# Altium footprint library SOT143_L.PcbLib: 8 footprints
Each footprint in its own frame and in the unit in brackets; x right, y up, seen from the top. Pads: shape width x height; smd on the part's side, far side on the other; paste and mask are expansions set on the pad; w line width, h text height; cw(c..) or ccw(c..) is an arc to the next point about the centre after c.
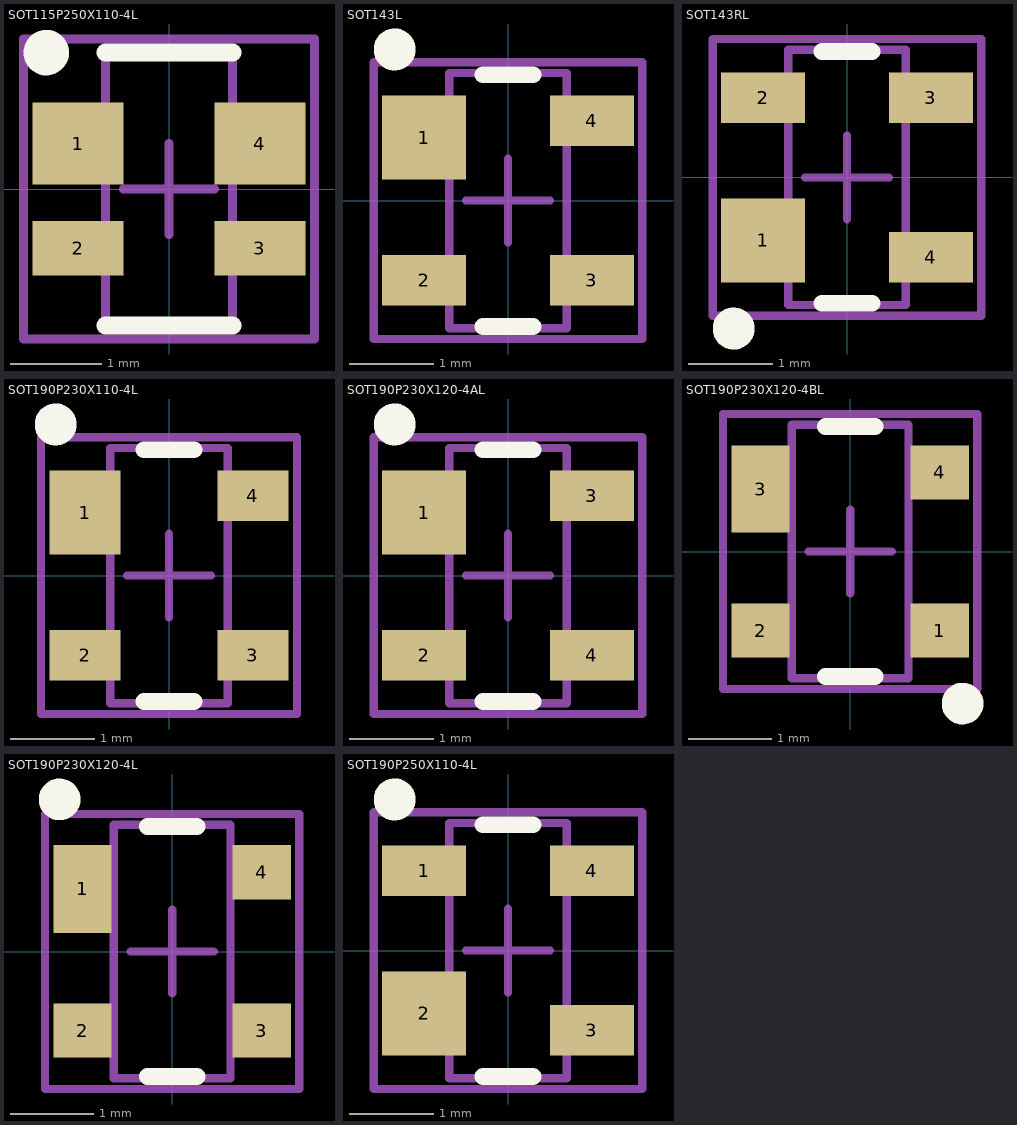
[diagram p0: the footprints below, top view; thin cyan lines are the x and y axes]

## SOT115P250X110-4L [mm] "SOT143, 4-Leads, Body 2.9x1.3mm, Pitch 1.15mm, Lead Span 2.5mm, IPC High Density"
height 1.1
pads (4):
  rect 1x0.9 smd: 1(-1,0.5) 4(1,0.5)
  rect 1x0.6 smd: 2(-1,-0.65) 3(1,-0.65)
Top Overlay:
  circle w0.25: c-1.35,1.5 r0.125
  lines w0.2: -0.7,-1.5 0.7,-1.5 ; -0.7,1.5 0.7,1.5
Mechanical 13:
  lines w0.1: -0.7,-1.52 -0.7,1.52 0.7,1.52 0.7,-1.52 -0.7,-1.52
Mechanical 15:
  lines w0.1: -0.5,0 0.5,0 ; 0,-0.5 0,0.5 ; -1.6,-1.65 -1.6,1.65 1.6,1.65 1.6,-1.65 -1.6,-1.65
3D body: height 1.1, standoff 0, extent -0.7,-1.52 0.7,1.52

## SOT143L [mm] "SOT143, 4-Leads, Body 2.9x1.3mm, Pitch 1.9mm, Lead Span 2.5mm, IPC High Density"
height 1.1
pads (4):
  rect 1x1 smd: 1(-1,0.75)
  rect 1x0.6 smd: 2(-1,-0.95) 3(1,-0.95) 4(1,0.95)
Top Overlay:
  circle w0.25: c-1.35,1.8 r0.125
  lines w0.2: -0.3,-1.5 0.3,-1.5 ; -0.3,1.5 0.3,1.5
Mechanical 13:
  lines w0.1: -0.7,-1.52 -0.7,1.52 0.7,1.52 0.7,-1.52 -0.7,-1.52
Mechanical 15:
  lines w0.1: -0.5,0 0.5,0 ; 0,-0.5 0,0.5 ; -1.6,-1.65 -1.6,1.65 1.6,1.65 1.6,-1.65 -1.6,-1.65
3D body: height 1.1, standoff 0, extent -0.7,-1.52 0.7,1.52

## SOT143RL [mm] "SOT143, 4-Leads, Body 2.9x1.3mm, Pitch 1.9mm, Lead Span 2.3mm - Reverse Pinning, IPC High Density"
height 1.1
pads (4):
  rect 1x1 smd: 1(-1,-0.75)
  rect 1x0.6 smd: 2(-1,0.95) 3(1,0.95) 4(1,-0.95)
Top Overlay:
  circle w0.25: c-1.35,-1.8 r0.125
  lines w0.2: -0.3,-1.5 0.3,-1.5 ; -0.3,1.5 0.3,1.5
Mechanical 13:
  lines w0.1: -0.7,-1.52 0.7,-1.52 0.7,1.52 -0.7,1.52 -0.7,-1.52
Mechanical 15:
  lines w0.1: -0.5,0 0.5,0 ; 0,-0.5 0,0.5 ; -1.6,-1.65 1.6,-1.65 1.6,1.65 -1.6,1.65 -1.6,-1.65
3D body: height 1.1, standoff 0, extent -0.7,-1.52 0.7,1.52

## SOT190P230X110-4L [mm] "SOT143, 4-Leads, Body 2.9x1.3mm, Pitch 1.9mm, Lead Span 2.3mm, IPC High Density"
height 1.1
pads (4):
  rect 0.85x1 smd: 1(-1,0.75)
  rect 0.85x0.6 smd: 2(-1,-0.95) 3(1,-0.95) 4(1,0.95)
Top Overlay:
  circle w0.25: c-1.35,1.8 r0.125
  lines w0.2: -0.3,-1.5 0.3,-1.5 ; -0.3,1.5 0.3,1.5
Mechanical 13:
  lines w0.1: -0.7,-1.52 -0.7,1.52 0.7,1.52 0.7,-1.52 -0.7,-1.52
Mechanical 15:
  lines w0.1: -0.5,0 0.5,0 ; 0,-0.5 0,0.5 ; -1.525,-1.65 -1.525,1.65 1.525,1.65 1.525,-1.65 -1.525,-1.65
3D body: height 1.1, standoff 0, extent -0.7,-1.52 0.7,1.52

## SOT190P230X120-4AL [mm] "SOT143, 4-Leads, Body 2.9x1.3mm, Pitch 1.9mm, Lead Span 2.3mm, IPC High Density"
height 1.2
pads (4):
  rect 1x1 smd: 1(-1,0.75)
  rect 1x0.6 smd: 2(-1,-0.95) 3(1,0.95) 4(1,-0.95)
Top Overlay:
  circle w0.25: c-1.35,1.8 r0.125
  lines w0.2: -0.3,-1.5 0.3,-1.5 ; -0.3,1.5 0.3,1.5
Mechanical 13:
  lines w0.1: -0.7,-1.52 -0.7,1.52 0.7,1.52 0.7,-1.52 -0.7,-1.52
Mechanical 15:
  lines w0.1: -0.5,0 0.5,0 ; 0,-0.5 0,0.5 ; -1.6,-1.65 -1.6,1.65 1.6,1.65 1.6,-1.65 -1.6,-1.65
3D body: height 1.2, standoff 0, extent -0.7,-1.52 0.7,1.52

## SOT190P230X120-4BL [mm] "SOT143, 4-Leads, Body 2.9x1.3mm, Pitch 1.9mm, Lead Span 2.3mm, IPC High Density"
height 1.2
pads (4):
  rect 0.7x0.65 smd: 1(1.075,-0.95) 2(-1.075,-0.95) 4(1.075,0.95)
  rect 0.7x1.05 smd: 3(-1.075,0.75)
Top Overlay:
  circle w0.25: c1.35,-1.825 r0.125
  lines w0.2: -0.3,-1.5 0.3,-1.5 ; -0.3,1.5 0.3,1.5
Mechanical 13:
  lines w0.1: -0.7,-1.52 -0.7,1.52 0.7,1.52 0.7,-1.52 -0.7,-1.52
Mechanical 15:
  lines w0.1: -0.5,0 0.5,0 ; 0,-0.5 0,0.5 ; -1.525,-1.65 -1.525,1.65 1.525,1.65 1.525,-1.65 -1.525,-1.65
3D body: height 1.2, standoff 0, extent -0.7,-1.52 0.7,1.52

## SOT190P230X120-4L [mm] "SOT143, 4-Leads, Body 2.9x1.3mm, Pitch 1.9mm, Lead Span 2.3mm, IPC High Density"
height 1.2
pads (4):
  rect 0.7x1.05 smd: 1(-1.075,0.75)
  rect 0.7x0.65 smd: 2(-1.075,-0.95) 3(1.075,-0.95) 4(1.075,0.95)
Top Overlay:
  circle w0.25: c-1.35,1.825 r0.125
  lines w0.2: -0.3,-1.5 0.3,-1.5 ; -0.3,1.5 0.3,1.5
Mechanical 13:
  lines w0.1: -0.7,-1.52 0.7,-1.52 0.7,1.52 -0.7,1.52 -0.7,-1.52
Mechanical 15:
  lines w0.1: -0.5,0 0.5,0 ; 0,-0.5 0,0.5 ; -1.525,-1.65 1.525,-1.65 1.525,1.65 -1.525,1.65 -1.525,-1.65
3D body: height 1.2, standoff 0, extent -0.7,-1.52 0.7,1.52

## SOT190P250X110-4L [mm] "SOT143, 4-Leads, Body 2.9x1.3mm, Pitch 1.9mm, Lead Span 2.5mm, IPC High Density"
height 1.1
pads (4):
  rect 1x0.6 smd: 1(-1,0.95) 3(1,-0.95) 4(1,0.95)
  rect 1x1 smd: 2(-1,-0.75)
Top Overlay:
  circle w0.25: c-1.35,1.8 r0.125
  lines w0.2: -0.3,-1.5 0.3,-1.5 ; -0.3,1.5 0.3,1.5
Mechanical 13:
  lines w0.1: -0.7,-1.52 -0.7,1.52 0.7,1.52 0.7,-1.52 -0.7,-1.52
Mechanical 15:
  lines w0.1: -0.5,0 0.5,0 ; 0,-0.5 0,0.5 ; -1.6,-1.65 -1.6,1.65 1.6,1.65 1.6,-1.65 -1.6,-1.65
3D body: height 1.1, standoff 0, extent -0.7,-1.52 0.7,1.52